# Altium footprint library MC33926.PcbLib: 1 footprints
Each footprint in its own frame and in the unit in brackets; x right, y up, seen from the top. Pads: shape width x height; smd on the part's side, far side on the other; paste and mask are expansions set on the pad; w line width, h text height; cw(c..) or ccw(c..) is an arc to the next point about the centre after c.
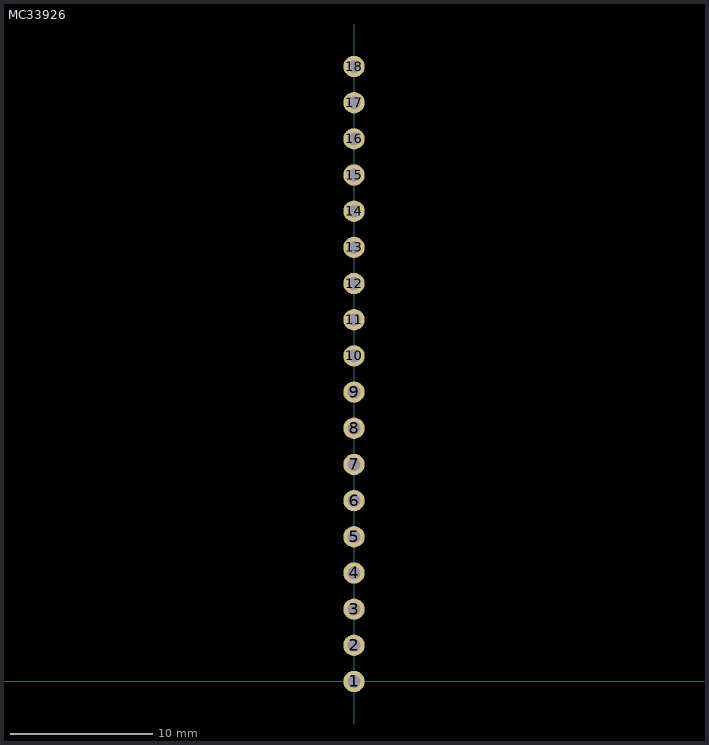
[diagram p0: the footprint, top view; thin cyan lines are the x and y axes]

## MC33926 [mm]
pads (18):
  round 1.5 hole 0.9: 1(0,0) 2(0,2.54) 3(0,5.08) 4(0,7.62) 5(0,10.16) 6(0,12.7) 7(0,15.24) 8(0,17.78) 9(0,20.32) 10(0,22.86) 11(0,25.4) 12(0,27.94) 13(0,30.48) 14(0,33.02) 15(0,35.56) 16(0,38.1) 17(0,40.64) 18(0,43.18)
Bottom Overlay:
  text "M2FB" at 5.05,42.75 h1.2
  text "GND" at 4.4,2.05 h1.2
  text "VDD" at 4.4,4.6 h1.2
  text "M1IN2" at 4.9,7.15 h1.2
  text "M1D2" at 4.9,12.35 h1.2
  text "M1D1" at 4.85,14.75 h1.2
  text "M1SF" at 4.9,17.3 h1.2
  text "EN" at 4.25,22.45 h1.2
  text "SLEW" at 5.2,25.05 h1.2
  text "INV" at 4.4,27.55 h1.2
  text "M2IN1" at 5.1,32.55 h1.2
  text "M2D2" at 4.95,35.1 h1.2
  text "M2D1" at 5.05,37.7 h1.2
  text "M1IN1" at 4.95,9.75 h1.2
  text "M1FB" at 4.95,19.85 h1.2
  text "M2IN2" at 5.15,30.1 h1.2
  text "M2SF" at 4.95,40.25 h1.2
  text "VIN" at 4.05,-0.5 h1.2
3D body "Pin_female_8.SLDPRT": height 8.51, standoff -1.55, extent -1.205,19.06 1.205,39.38
3D body "Pin_female_8.SLDPRT": height 8.51, standoff -1.55, extent -1.205,-1.26 1.205,19.06
3D body: height 0.25, standoff -50.9, extent 11.15,47.35 11.15,47.35
3D body: height 1.2, standoff -1.2, extent 92.55,24.55 92.55,24.55
3D body "Pin_female_2.SLDPRT": height 8.51, standoff -1.55, extent -1.205,39.36 1.205,44.44